# EAGLE library part PMIC_RK806S (library !GPLIB_ACTIVE)
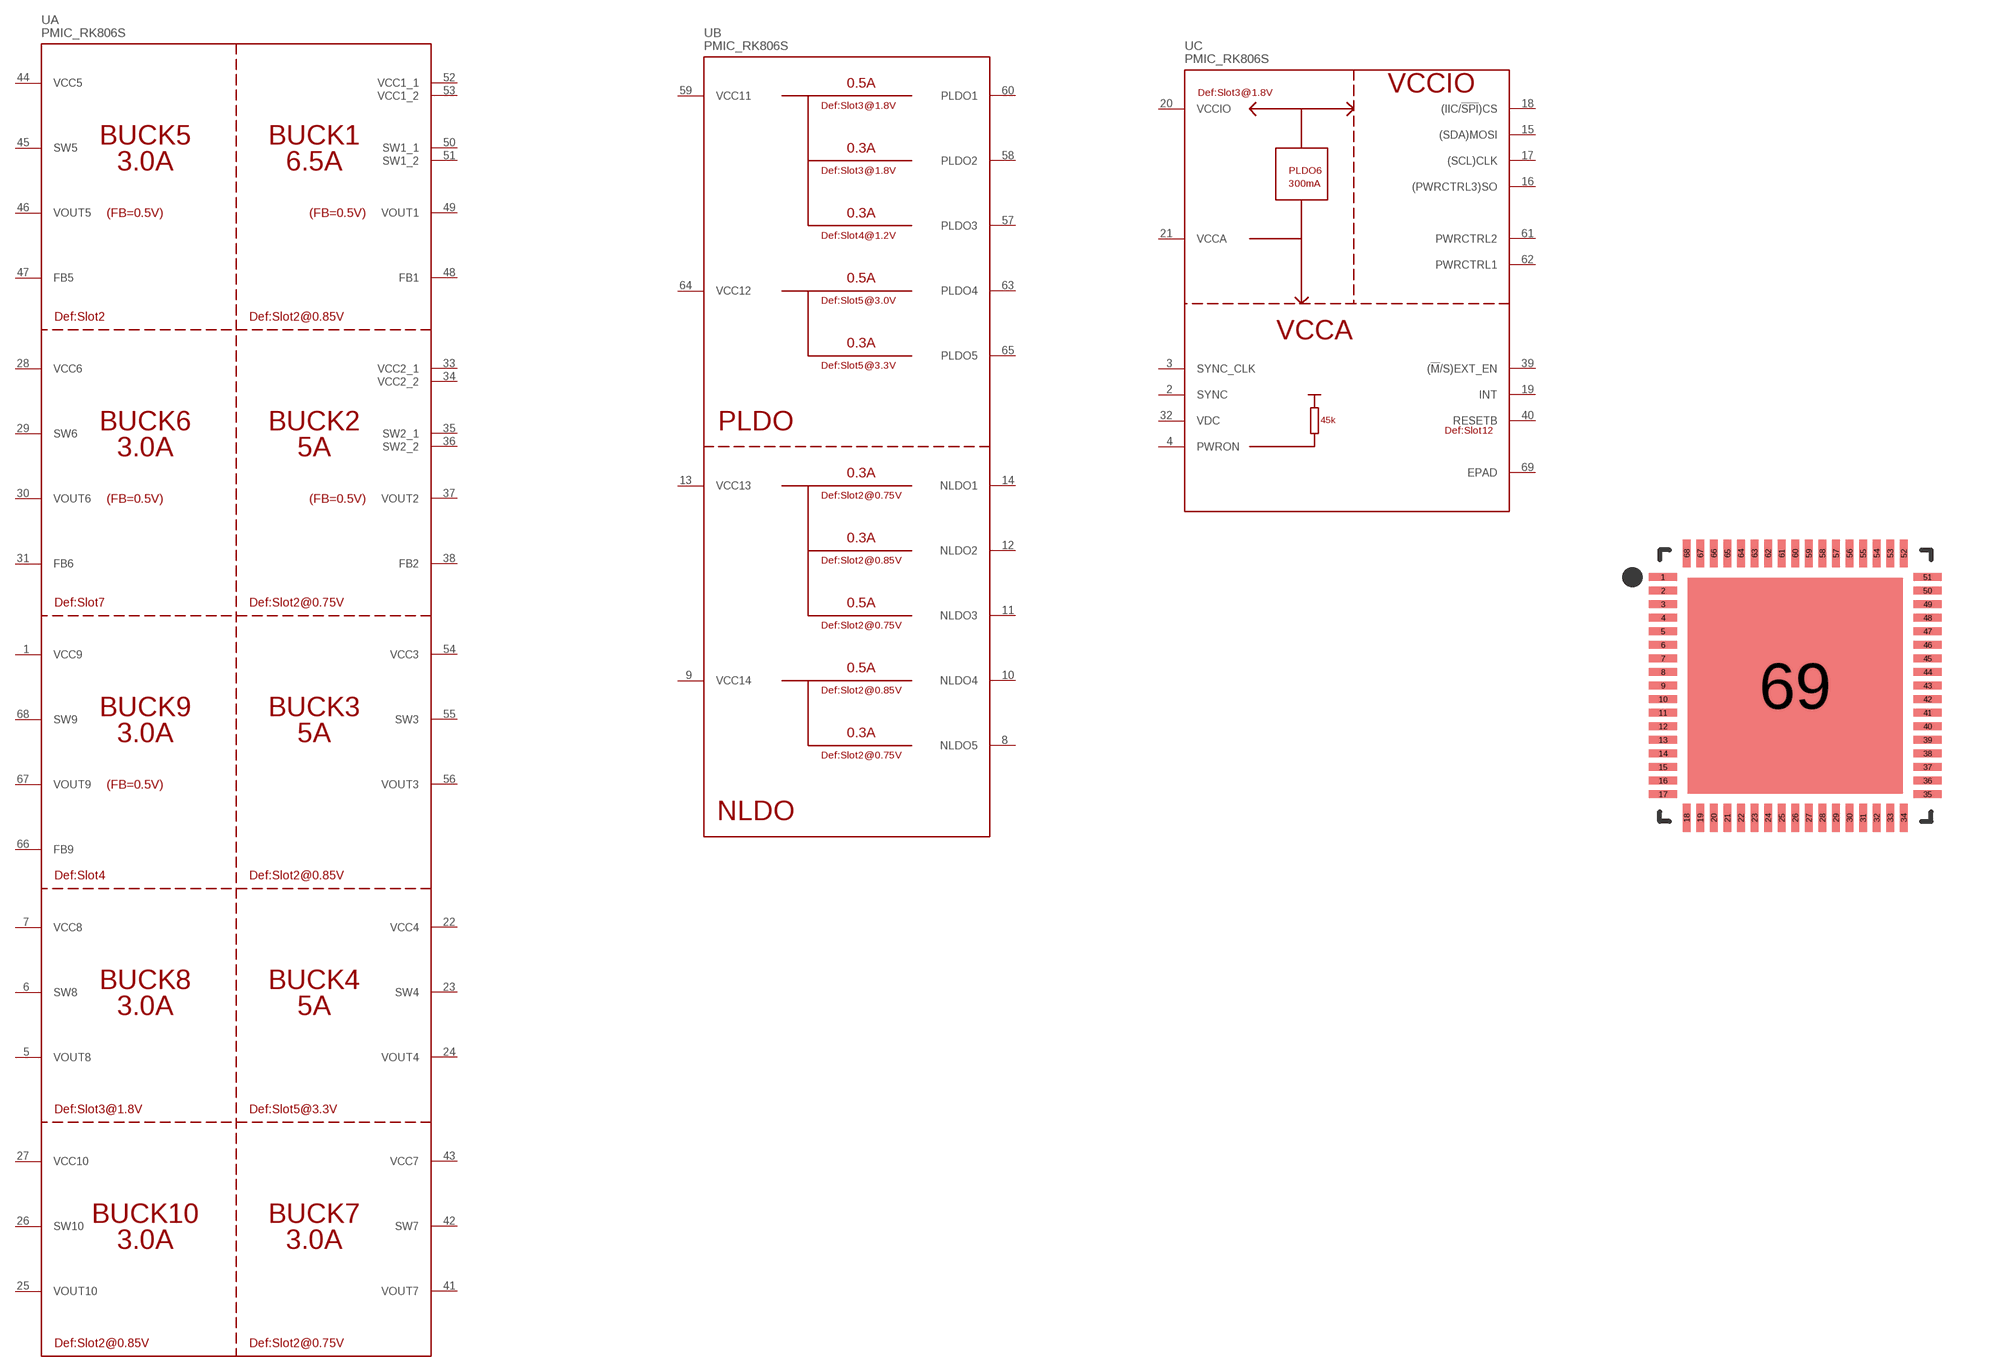
[diagram p126: symbol with the pads of QFN35P700X700X90-69N; footprint QFN35P700X700X90-69N]

Designator prefix U; gates A=RK806S-A B=RK806S-B C=RK806S-C

## PMIC_RK806S_RK806S-5  [QFN35P700X700X90-69N]
1  A:VCC9
2  C:SYNC
3  C:SYNC_CLK
4  C:PWRON
5  A:VOUT8
6  A:SW8
7  A:VCC8
8  B:NLDO5
9  B:VCC14
10  B:NLDO4
11  B:NLDO3
12  B:NLDO2
13  B:VCC13
14  B:NLDO1
15  C:(SDA)MOSI
16  C:(PWRCTRL3)SO
17  C:(SCL)CLK
18  C:(IIC/!SPI!)CS
19  C:INT
20  C:VCCIO
21  C:VCCA
22  A:VCC4
23  A:SW4
24  A:VOUT4
25  A:VOUT10
26  A:SW10
27  A:VCC10
28  A:VCC6
29  A:SW6
30  A:VOUT6
31  A:FB6
32  C:VDC
33  A:VCC2_1
34  A:VCC2_2
35  A:SW2_1
36  A:SW2_2
37  A:VOUT2
38  A:FB2
39  C:(!M!/S)EXT_EN
40  C:RESETB
41  A:VOUT7
42  A:SW7
43  A:VCC7
44  A:VCC5
45  A:SW5
46  A:VOUT5
47  A:FB5
48  A:FB1
49  A:VOUT1
50  A:SW1_1
51  A:SW1_2
52  A:VCC1_1
53  A:VCC1_2
54  A:VCC3
55  A:SW3
56  A:VOUT3
57  B:PLDO3
58  B:PLDO2
59  B:VCC11
60  B:PLDO1
61  C:PWRCTRL2
62  C:PWRCTRL1
63  B:PLDO4
64  B:VCC12
65  B:PLDO5
66  A:FB9
67  A:VOUT9
68  A:SW9
69  C:EPAD

## Footprint QFN35P700X700X90-69N (pad centres in mm)
smd 0.723 x 0.196: 1 -3.411,2.8; 2 -3.411,2.45; 3 -3.411,2.1; 4 -3.411,1.75; 5 -3.411,1.4; 6 -3.411,1.05; 7 -3.411,0.7; 8 -3.411,0.35; 9 -3.411,0; 10 -3.411,-0.35; 11 -3.411,-0.7; 12 -3.411,-1.05; 13 -3.411,-1.4; 14 -3.411,-1.75; 15 -3.411,-2.1; 16 -3.411,-2.45; 17 -3.411,-2.8; 35 3.411,-2.8; 36 3.411,-2.45; 37 3.411,-2.1; 38 3.411,-1.75; 39 3.411,-1.4; 40 3.411,-1.05; 41 3.411,-0.7; 42 3.411,-0.35; 43 3.411,0; 44 3.411,0.35; 45 3.411,0.7; 46 3.411,1.05; 47 3.411,1.4; 48 3.411,1.75; 49 3.411,2.1; 50 3.411,2.45; 51 3.411,2.8
smd 0.196 x 0.723: 18 -2.8,-3.411; 19 -2.45,-3.411; 20 -2.1,-3.411; 21 -1.75,-3.411; 22 -1.4,-3.411; 23 -1.05,-3.411; 24 -0.7,-3.411; 25 -0.35,-3.411; 26 0,-3.411; 27 0.35,-3.411; 28 0.7,-3.411; 29 1.05,-3.411; 30 1.4,-3.411; 31 1.75,-3.411; 32 2.1,-3.411; 33 2.45,-3.411; 34 2.8,-3.411; 52 2.8,3.411; 53 2.45,3.411; 54 2.1,3.411; 55 1.75,3.411; 56 1.4,3.411; 57 1.05,3.411; 58 0.7,3.411; 59 0.35,3.411; 60 0,3.411; 61 -0.35,3.411; 62 -0.7,3.411; 63 -1.05,3.411; 64 -1.4,3.411; 65 -1.75,3.411; 66 -2.1,3.411; 67 -2.45,3.411; 68 -2.8,3.411
smd 5.56 x 5.56: 69 0,0